# Altium schematic symbol library IC_Microchip_USB2514B-I-M2_eec.SchLib: 1 symbol
Pins are listed as number, name and electrical type; pins without a type are passive.

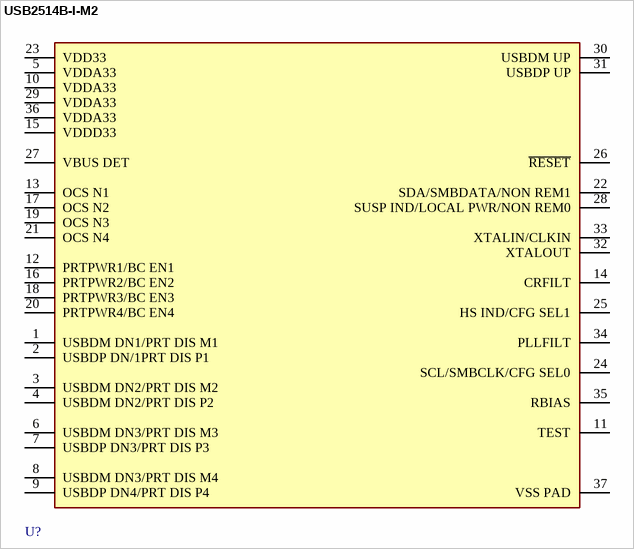
[diagram p0: symbol USB2514B-I-M2]

## USB2514B-I-M2
designator U?  (value not drawn)
pins: 1 USBDM DN1/PRT DIS M1, 2 USBDP DN/1PRT DIS P1, 3 USBDM DN2/PRT DIS M2, 4 USBDM DN2/PRT DIS P2, 5 VDDA33, 6 USBDM DN3/PRT DIS M3, 7 USBDP DN3/PRT DIS P3, 8 USBDM DN3/PRT DIS M4, 9 USBDP DN4/PRT DIS P4, 10 VDDA33, 11 TEST, 12 PRTPWR1/BC EN1, 13 OCS N1, 14 CRFILT, 15 VDDD33, 16 PRTPWR2/BC EN2, 17 OCS N2, 18 PRTPWR3/BC EN3, 19 OCS N3, 20 PRTPWR4/BC EN4, 21 OCS N4, 22 SDA/SMBDATA/NON REM1, 23 VDD33, 24 SCL/SMBCLK/CFG SEL0, 25 HS IND/CFG SEL1, 26 ~{RESET}, 27 VBUS DET, 28 SUSP IND/LOCAL PWR/NON REM0, 29 VDDA33, 30 USBDM UP, 31 USBDP UP, 32 XTALOUT, 33 XTALIN/CLKIN, 34 PLLFILT, 35 RBIAS, 36 VDDA33, 37 VSS PAD